# Altium schematic symbol library gsl.SchLib: 3 symbols
Pins are listed as number, name and electrical type; pins without a type are passive.

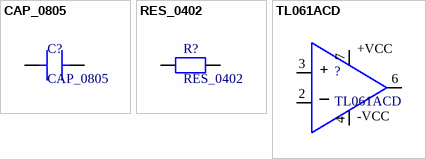
[diagram p0: symbols CAP_0805 to TL061ACD]

## CAP_0805
designator C?
Capacitor SMD 0805 Generic
footprint CAP_0805 (Chip Capacitor, 2-Leads, Body 2.00x1.25mm, IPC Medium Density)
pins: 1, 2

## RES_0402
designator R?
Resistor SMD 0402 Generic
footprint RES_0402 (Chip Resistor, 2-Leads, Body 1.00x0.50mm, IPC Medium Density)
pins: 1, 2

## TL061ACD
designator ?
footprint TLC061ACD
pins: 2, 3, 4, 6, 7
text: +VCC; +; _; -VCC